# Altium integrated library Resistors-potenciometers.IntLib: 401 symbols (part 4 of 5)
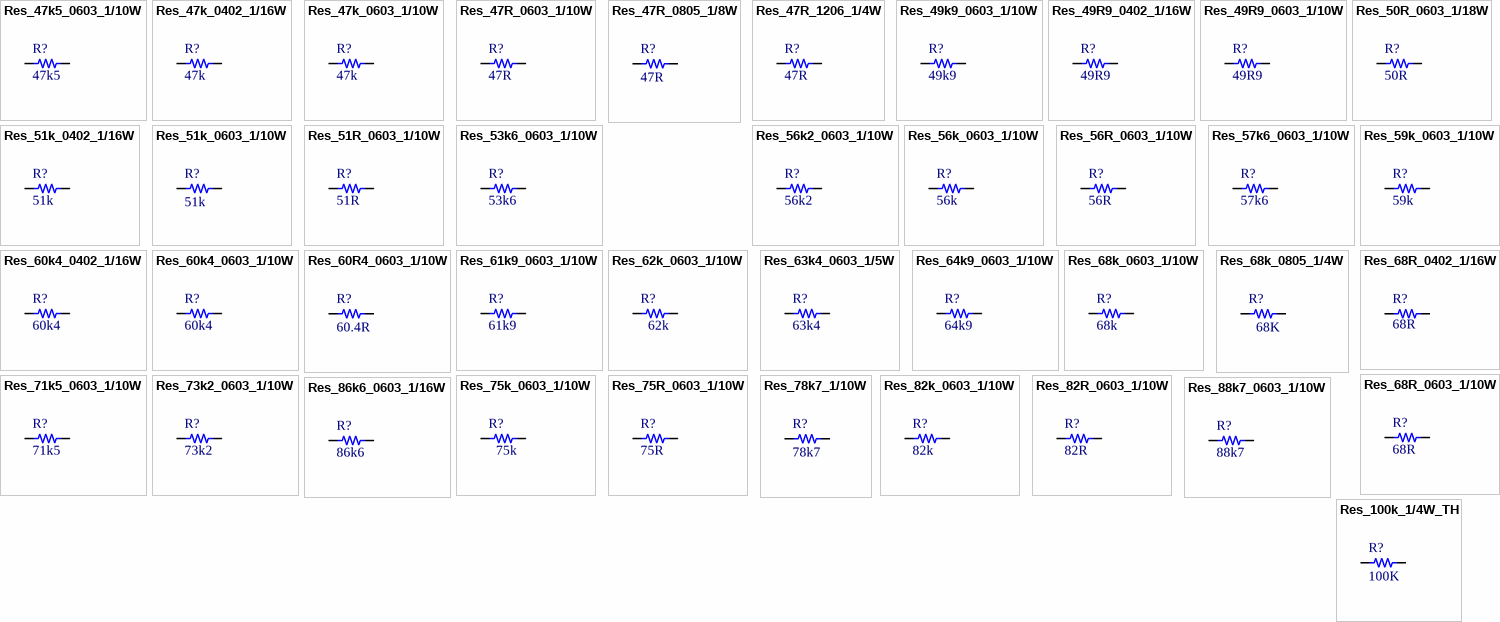
[diagram p13: symbols Res_47k5_0603_1/10W to Res_100k_1/4W_TH]

## Res_68k_0603_1/10W
designator R?, comment value 68k  (hidden comment: 68k 1/10W)
RES SMD 68K OHM 1% 1/10W 0603; Manufacturer: Yageo; Manufacturer Part Number: RC0603FR-0768KL; Supplier 1: Digi-Key; Supplier Part Number 1: 311-68.0KHRCT-ND; Reel Stock: N/A; Last modified by: J.Jaramillo; Last modified date: 20240310; ComponentLink1Description: Digi-Key; ComponentLink1URL: https://www.digikey.com/product-detail/en/yageo/RC0603FR-0768KL/311-68.0KHRCT-ND/730299
footprint 0603
pins: 1, 2

## Res_68k_0805_1/4W
designator R?, comment value 68K  (hidden comment: 68k 1/4W)
RES 68K OHM 5% 1/8W 0805; Manufacturer: YAGEO; Manufacturer Part Number: RC0805JR-0768KL; Supplier 1: Digi-Key; Supplier Part Number 1: 311-68KARCT-ND; Reel Stock: N/A; Last modified by: J.Jaramillo; Last modified date: 20240310; ComponentLink1Description: Digi-Key; ComponentLink1URL: https://www.digikey.com/en/products/detail/yageo/RC0805JR-0768KL/728364
footprint 0805 (2012 metric/ 20190327 / V-A.Patino)
pins: 1, 2

## Res_68R_0402_1/16W
designator R?, comment value 68R  (hidden comment: 68R 1/16W)
RES SMD 68 OHM 5% 1/16W 0402; Manufacturer: Yageo; Manufacturer Part Number: RC0402JR-0768RL; Supplier 1: Digi-Key; Supplier Part Number 1: 311-68JRCT-ND; Reel Stock: N/A; Last modified by: J.Jaramillo; Last modified date: 20240310; ComponentLink1Description: Digi-Key; ComponentLink1URL: https://www.digikey.com/product-detail/en/yageo/RC0402JR-0768RL/311-68JRCT-ND/729449
footprint 0402 (1005 Metric / 20190222 / N-A.Potosi)
footprint 0402_RF (1005 Metric / 20190222 / N-A.Potosi)
footprint 0402_RF2 (1005 Metric / 20190222 / N-A.Potosi)
pins: 1, 2

## Res_68R_0603_1/10W
designator R?, comment value 68R  (hidden comment: 68R 1/10W)
RES SMD 68 OHM 1% 1/10W 0603; Manufacturer: Yageo; Manufacturer Part Number: RC0603FR-0768RL; Reel Stock: N/A; Last modified by: J.Jaramillo; Last modified date: 20240310; ComponentLink1Description: Digi-Key; ComponentLink1URL: https://www.digikey.com/en/products/detail/yageo/RC0603FR-0768RL/727351?s=N4IgTCBcDaIMwEYEFoBsAOAdABgBICUBhAFWQDkAREAXQF8g; Supplier 1: Digi-Key; Supplier Part Number 1: 311-68.0HRCT-ND
footprint 0603
pins: 1, 2

## Res_71k5_0603_1/10W
designator R?, comment value 71k5  (hidden comment: 71k5 1/10W)
RES 71.5K OHM 1% 1/10W 0603; Manufacturer: YAGEO; Manufacturer Part Number: RC0603FR-0771K5L; Supplier 1: Digi-Key; Supplier Part Number 1: 311-71.5KHRCT-ND; Reel Stock: N/A; Last modified by: J.Jaramillo; Last modified date: 20240310; ComponentLink1Description: Digi-Key; ComponentLink1URL: https://www.digikey.com/en/products/detail/yageo/RC0603FR-0771K5L/727370
footprint 0603 (1608 Metric / 20190222 / N-A.Potosi)
pins: 1, 2

## Res_73k2_0603_1/10W
designator R?, comment value 73k2  (hidden comment: 73k2 /10W)
RES 73.2K OHM 1% 1/10W 0603; Manufacturer: YAGEO; Manufacturer Part Number: RC0603FR-0773K2L; Supplier 1: Digi-Key; Supplier Part Number 1: 311-73.2KHRCT-ND; Reel Stock: N/A; Last modified by: J.Jaramillo; Last modified date: 20240310; ComponentLink1Description: Digi-Key; ComponentLink1URL: https://www.digikey.com/en/products/detail/yageo/RC0603FR-0773K2L/727374
footprint 0603 (1608 Metric / 20190222 / N-A.Potosi)
pins: 1, 2

## Res_75k_0603_1/10W
designator R?, comment value 75k  (hidden comment: 75k 1/10W)
RES 75k OHM 1% 1/10W 0603; Manufacturer: Stackpole Electronics Inc.; Manufacturer Part Number: RMCF0603FT75K0; Supplier 1: Digi-Key; Supplier Part Number 1: RMCF0603FT75K0CT-ND; Reel Stock: N/A; Last modified by: J.Jaramillo; Last modified date: 20240310; ComponentLink1Description: Digi-Key; ComponentLink1URL: https://www.digikey.com/product-detail/en/stackpole-electronics-inc/RMCF0603FT75K0/RMCF0603FT75K0CT-ND/1943111
footprint 0603
pins: 1, 2

## Res_75R_0603_1/10W
designator R?, comment value 75R  (hidden comment: 75R 1/10W)
RES 75 OHM 1% 1/10W 0603; Manufacturer: Stackpole Electronics Inc.; Manufacturer Part Number: RMCF0603FT75R0; Supplier 1: Digi-Key; Supplier Part Number 1: RMCF0603FT75R0CT-ND; Reel Stock: N/A; Last modified by: J.Jaramillo; Last modified date: 20240310; ComponentLink1Description: Digi-Key; ComponentLink1URL: https://www.digikey.com/product-detail/en/stackpole-electronics-inc/RMCF0603FT75R0/RMCF0603FT75R0CT-ND/1942961
footprint 0603
pins: 1, 2

## Res_78k7_1/10W
designator R?, comment 78K7
RES SMD 78.7K OHM 1% 1/10W 0603; Manufacturer: Vishay Dale; Manufacturer Part Number: CRCW060378K7FKEA; Supplier 1: Digi-Key; Supplier Part Number 1: 541-78.7KHCT-ND; Reel Stock: N/A; Last modified by: J.Jaramillo; Last modified date: 20240310; ComponentLink1Description: New link; ComponentLink1URL: https://www.digikey.com/en/products/detail/vishay-dale/CRCW060378K7FKEA/1174884; Value: 78k7
footprint 0603 (1608 Metric / 20190222 / N-A.Potosi)
pins: 1, 2

## Res_82k_0603_1/10W
designator R?, comment value 82k  (hidden comment: 82k 1/10W)
RES 82K OHM 1% 1/10W 0603; Manufacturer: Stackpole Electronics Inc.; Manufacturer Part Number: RMCF0603FT82K0; Supplier 1: Digi-Key; Supplier Part Number 1: RMCF0603FT82K0CT-ND; Reel Stock: N/A; Last modified by: J.Jaramillo; Last modified date: 20240310; ComponentLink1Description: Digi-Key; ComponentLink1URL: https://www.digikey.com/products/en?keywords=RMCF0603FT82K0CT-ND
footprint 0603
pins: 1, 2

## Res_82R_0603_1/10W
designator R?, comment value 82R  (hidden comment: 82R 1/10W)
RES SMD 82 OHM 1% 1/10W 0603; Manufacturer Part Number: CR0603-FX-82R0ELF; Manufacturer: Bourns; Reel Stock: N/A; Last modified by: J.Jaramillo; Last modified date: 20240310; ComponentLink1Description: Digi-Key; ComponentLink1URL: https://www.digikey.com/en/products/detail/bourns-inc/CR0603-FX-82R0ELF/3784192?s=N4IgTCBcDaIMICUAMA2JBmAtAMQBqYA4xkBRAGWxAF0BfIA; Supplier 1: Digi-Key; Supplier Part Number 1: CR0603-FX-82R0ELFCT-ND
footprint 0603
pins: 1, 2

## Res_86k6_0603_1/16W
designator R?, comment value 86k6  (hidden comment: 86k6 1/16W)
RES 86.6K OHM 0.1% 1/10W 0603; Manufacturer: Stackpole Electronics Inc; Manufacturer Part Number: RNCF0603BTE86K6; Supplier 1: Digi-Key; Supplier Part Number 1: RNCF0603BTE86K6CT-ND; Reel Stock: N/A; Last modified by: J.Jaramillo; Last modified date: 20240310; ComponentLink1Description: Digi-Key; ComponentLink1URL: https://www.digikey.com/en/products/detail/stackpole-electronics-inc/RNCF0603BTE86K6/1710179
footprint 0603 (1608 Metric / 20190222 / N-A.Potosi)
pins: 1, 2

## Res_88k7_0603_1/10W
designator R?, comment value 88k7  (hidden comment: 88k7 1/10W)
RES SMD 88.7K OHM 1% 1/10W 0603; Manufacturer: Yageo; Manufacturer Part Number: RC0603FR-0788K7L; Supplier 1: Digi-Key; Supplier Part Number 1: 311-88.7KHRCT-ND; Reel Stock: N/A; Last modified by: J.Jaramillo; Last modified date: 20240310; ComponentLink1Description: Digi-Key; ComponentLink1URL: https://www.digikey.com/product-detail/en/yageo/RC0603FR-0788K7L/311-88.7KHRCT-ND/730362
footprint 0603 (1608 Metric / 20190222 / N-A.Potosi)
pins: 1, 2

## Res_100k_1/4W_TH
designator R?  value 100K
RES 100K OHM 5% 1/4W AXIAL; Manufacturer: Stackpole Electronics Inc; Manufacturer Part Number: CF14JT100K; Supplier 1: Digi-Key; Supplier Part Number 1: CF14JT100KCT-ND; Reel Stock: N/A; Last modified by: J.Jaramillo; Last modified date: 20240310; ComponentLink1Description: Digi-Key; ComponentLink1URL: https://www.digikey.com/en/products/detail/stackpole-electronics-inc/CF14JT100K/1741263; ComponentLink2Description: Datahseet; ComponentLink2URL: chrome-extension://efaidnbmnnnibpcajpcglclefindmkaj/https://www.seielect.com/catalog/sei-cf_cfm.pdf
footprint RES_1/4W_TH_AXIAL (/20231112/ J.Jaramillo)
pins: 1, 2

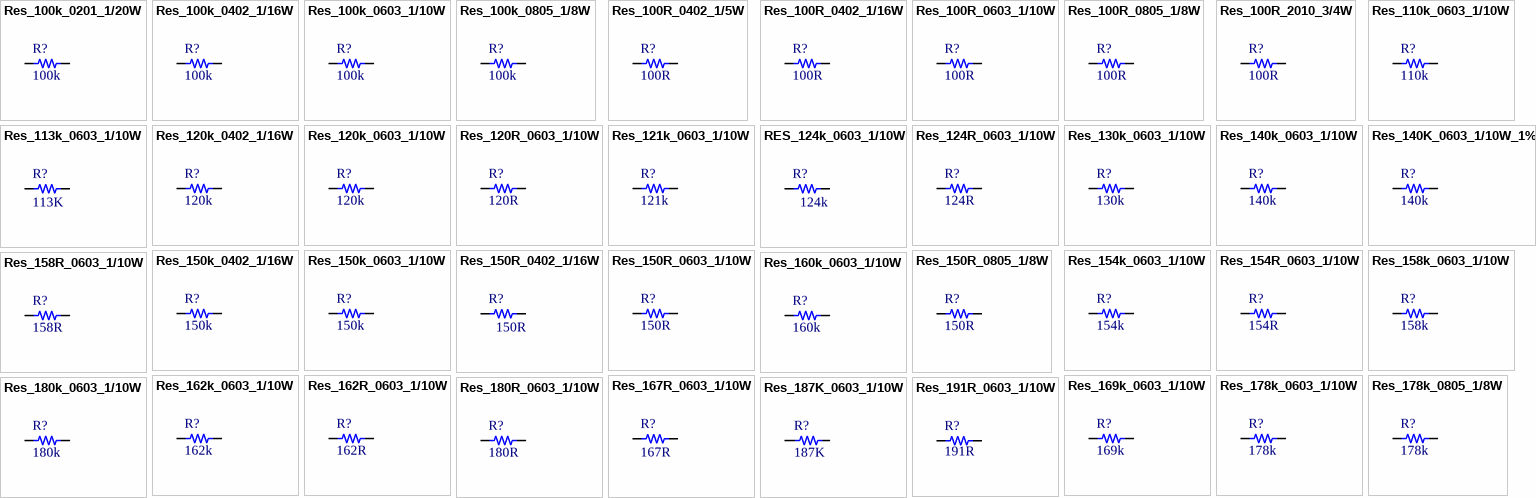
[diagram p7: symbols Res_100k_0201_1/20W to Res_191R_0603_1/10W]

## Res_100k_0201_1/20W
designator R?, comment value 100k  (hidden comment: 100k 1/20W)
RES 100K OHM 1% 1/20W 0201; Manufacturer: KOA Speer Electronics, Inc.; Manufacturer Part Number: RK73H1HTTC1003F; Supplier 1: Digi-Key; Supplier Part Number 1: 2019-RK73H1HTTC1003FCT-ND; Reel Stock: N/A; Last modified by: J.Jaramillo; Last modified date: 20240310; ComponentLink1Description: Digi-Key; ComponentLink1URL: https://www.digikey.com/en/products/detail/koa-speer-electronics-inc/RK73H1HTTC1003F/9843756?s=N4IgTCBcDaIEoGkDsBmAEgRjQFWwYQwAZCUAxEAXQF8g
footprint 0201 (20211214 / A-F.Romo)
pins: 1, 2

## Res_100k_0402_1/16W
designator R?, comment value 100k  (hidden comment: 100K 1/16W)
RES SMD 100K OHM 1% 1/16W 0402; Manufacturer: Yageo; Manufacturer Part Number: RC0402FR-07100KL; Supplier 1: Digi-Key; Supplier Part Number 1: 311-100KLRCT-ND; Reel Stock: N/A; Last modified by: J.Jaramillo; Last modified date: 20240310; ComponentLink1Description: Digi-Key; ComponentLink1URL: https://www.digikey.com/en/products/detail/yageo/RC0402FR-07100KL/726526?s=N4IgTCBcDaIEoGEAMAWJYBicC0SDsAjEkgNIAyIAugL5A
footprint 0402 (1005 Metric / 20190222 / N-A.Potosi)
footprint 0402_RF (1005 Metric / 20190222 / N-A.Potosi)
footprint 0402_RF2 (1005 Metric / 20190222 / N-A.Potosi)
pins: 1, 2

## Res_100k_0603_1/10W
designator R?, comment value 100k  (hidden comment: 100k 1/10W)
RES 100k OHM 1% 1/10W 0603; Manufacturer: Stackpole Electronics Inc.; Manufacturer Part Number: RMCF0603FT100K; Supplier 1: Digi-Key; Supplier Part Number 1: RMCF0603FT100KCT-ND; Reel Stock: N/A; Last modified by: J.Jaramillo; Last modified date: 20240310; ComponentLink1Description: Digi-Key; ComponentLink1URL: https://www.digikey.com/product-detail/en/stackpole-electronics-inc/RMCF0603FT100K/RMCF0603FT100KCT-ND/1943118
footprint 0603
pins: 1, 2

## Res_100k_0805_1/8W
designator R?, comment value 100k  (hidden comment: 100k 1/8W)
RES SMD 100K OHM 1% 1/8W 0805; Manufacturer: Yageo; Manufacturer Part Number: RC0805FR-07100KL; Supplier 1: Digi-Key; Supplier Part Number 1: 311-100KCRCT-ND; Reel Stock: N/A; Last modified by: J.Jaramillo; Last modified date: 20240310; ComponentLink1Description: Digi-Key; ComponentLink1URL: https://www.digikey.com/product-detail/en/yageo/RC0805FR-07100KL/311-100KCRCT-ND/730491
footprint 0805 (2012 metric/ 20190327 / V-A.Patino)
footprint 0805_M (2012 Metric / 20200129/ V-A.Patino)
pins: 1, 2

## Res_100R_0402_1/5W
designator R?, comment value 100R  (hidden comment: 100R 1/5W)
RES SMD 100 OHM 1% 1/5W 0402; Manufacturer: Vishay Dale; Manufacturer Part Number: RCS0402100RFKED; ComponentLink1URL: https://www.digikey.com/products/en?keywords=541-2886-1-ND; Reel Stock: N/A; Last modified by: J.Jaramillo; Last modified date: 20240310; ComponentLink1Description: Digi-key; Supplier 1: Digi-Key; Supplier Part Number 1: 541-2886-1-ND
footprint 0402
footprint 0402_RF
pins: 1, 2

## Res_100R_0402_1/16W
designator R?, comment value 100R  (hidden comment: 100R 1/16W)
RES SMD 100 OHM 1% 1/16W 0402; Manufacturer: Yageo; Manufacturer Part Number: RC0402FR-07100RL; Supplier 1: Digi-Key; Supplier Part Number 1: 311-100LRCT-ND; Reel Stock: N/A; Last modified by: J.Jaramillo; Last modified date: 20240310; ComponentLink1Description: Digi_Key; ComponentLink1URL: https://www.digikey.com/en/products/detail/yageo/RC0402FR-07100RL/726527?s=N4IgTCBcDaIEoGEAMAWJYBicC0SDsAjEknADIgC6AvkA
footprint 0402 (1005 Metric / 20190222 / N-A.Potosi)
footprint 0402_RF (1005 Metric / 20190222 / N-A.Potosi)
footprint 0402_RF2 (1005 Metric / 20190222 / N-A.Potosi)
pins: 1, 2

## Res_100R_0603_1/10W
designator R?, comment value 100R  (hidden comment: 100R 1/10W)
RES SMD 100 OHM 1% 1/10W 0603; Manufacturer: Samsung Electro-Mechanics; Manufacturer Part Number: RC1608F101CS; ComponentLink1URL: https://www.digikey.com/products/en?keywords=1276-3482-1-ND; Supplier 1: Digi-Key; Supplier Part Number 1: 1276-3482-1-ND; Reel Stock: N/A; Last modified by: J.Jaramillo; Last modified date: 20240310; ComponentLink1Description: Digi-key
footprint 0603
pins: 1, 2

## Res_100R_0805_1/8W
designator R?, comment value 100R  (hidden comment: 100R 1/8W)
RES SMD 100 OHM 1% 1/8W 0805; Manufacturer: Yageo; Manufacturer Part Number: RC0805FR-07100RL; Reel Stock: N/A; Last modified by: J.Jaramillo; Last modified date: 20240310; ComponentLink1Description: Digi-Key; ComponentLink1URL: https://www.digikey.com/en/products/detail/yageo/RC0805FR-07100RL/727543?s=N4IgTCBcDaIEoGEAMAOJBWAYnAtEg7AIxJJwAyIAugL5A; Supplier 1: Digi-Key; Supplier Part Number 1: 311-100CRCT-ND
footprint 0805 (2012 Metric / 20190221 / C-A.Serna.A)
footprint 0805_M (2012 Metric / 20200129/ V-A.Patino)
pins: 1, 2

## Res_100R_2010_3/4W
designator R?, comment value 100R  (hidden comment: 1R 3/4W)
RES 100 OHM 5% 3/4W 2010; Manufacturer: YAGEO; Manufacturer Part Number: RC2010JK-07100RL; Supplier 1: Digi-Key; Supplier Part Number 1: YAG3381CT-ND; Reel Stock: N/A; Last modified by: J.Jaramillo; Last modified date: 20240310; ComponentLink1Description: Digi-Key; ComponentLink1URL: https://www.digikey.com/en/products/detail/yageo/RC2010JK-07100RL/5921626
footprint 2010 (E.Naranjo/20220217)
pins: 1, 2

## Res_110k_0603_1/10W
designator R?, comment value 110k  (hidden comment: 110k 1/10W)
RES SMD 110K OHM 1% 1/10W 0603; Manufacturer: Bourns Inc.; Manufacturer Part Number: CR0603-FX-1103ELF; Supplier 1: Digi-Key; Supplier Part Number 1: CR0603-FX-1103ELFCT-ND; Reel Stock: N/A; Last modified by: J.Jaramillo; Last modified date: 20240310; ComponentLink1Description: Digi-Key; ComponentLink1URL: https://www.digikey.com/product-detail/en/bourns-inc/CR0603-FX-1103ELF/CR0603-FX-1103ELFCT-ND/4247702
footprint 0603 (1608 Metric / 20190222 / N-A.Potosi)
pins: 1, 2

## Res_113k_0603_1/10W
designator R?, comment value 113K  (hidden comment: 113K 1/10W)
RES 113K OHM 1% 1/10W 0603; Manufacturer: Stackpole Electronics Inc; Manufacturer Part Number: RMCF0603FT113K; Supplier 1: Digi-Key; Supplier Part Number 1: RMCF0603FT113KCT-ND; Reel Stock: N/A; Last modified by: J.Jaramillo; Last modified date: 20240310; ComponentLink1Description: Digi-Key; ComponentLink1URL: https://www.digikey.com/en/products/detail/stackpole-electronics-inc/RMCF0603FT113K/1713567
footprint 0603 (1608 Metric / 20190222 / N-A.Potosi)
pins: 1, 2

## Res_120k_0402_1/16W
designator R?, comment value 120k  (hidden comment: 120k 1/16W)
RES SMD 120K OHM 1% 1/16W 0402; Manufacturer: Yageo; Manufacturer Part Number: RC0402FR-07120KL; Supplier 1: Digikey; Supplier Part Number 1: 311-120KLRCT-ND; Reel Stock: N/A; Last modified by: J.Jaramillo; Last modified date: 20240310; ComponentLink1Description: Digikey; ComponentLink1URL: https://www.digikey.com/en/products/detail/yageo/RC0402FR-07120KL/726534
footprint 0402 (1005 Metric / 20190222 / N-A.Potosi)
footprint 0402_RF (1005 Metric / 20190222 / N-A.Potosi)
footprint 0402_RF2 (1005 Metric / 20190222 / N-A.Potosi)
pins: 1, 2

## Res_120k_0603_1/10W
designator R?, comment value 120k  (hidden comment: 120k 1/10W)
RES SMD 120K OHM 1% 1/10W 0603; Manufacturer Part Number: RT0603FRE07120KL; Manufacturer: Yageo; Reel Stock: N/A; Last modified by: J.Jaramillo; Last modified date: 20240310; ComponentLink1Description: Digi-Key; ComponentLink1URL: https://www.digikey.com/en/products/detail/yageo/RT0603FRE07120KL/1075061?s=N4IgTCBcDaIEoBUAMA2JBmAYnAokg7AIxhIDSAMiALoC%2BQA; Supplier 1: Digi-Key; Supplier Part Number 1: YAG3352CT-ND
footprint 0603
pins: 1, 2

## Res_120R_0603_1/10W
designator R?, comment value 120R  (hidden comment: 120R 1/10W)
RES SMD 120 OHM 1% 1/10W 0603; Manufacturer Part Number: ERJ3EKF1200V; Manufacturer: Panasonic Electronic Components; Reel Stock: N/A; Last modified by: J.Jaramillo; Last modified date: 20240310; ComponentLink1Description: Digi-Key; ComponentLink1URL: https://www.digikey.com/en/products/detail/panasonic-electronic-components/ERJ-3EKF1200V/1746300?s=N4IgTCBcDaIKICUBSBmOBpAYgRjABjwDUQBdAXyA; Supplier 1: Digi-Key; Supplier Part Number 1: P120HCT-ND
footprint 0603
pins: 1, 2

## Res_121k_0603_1/10W
designator R?, comment value 121k  (hidden comment: 121k 1/10W)
RES SMD 121K OHM 1% 1/10W 0603; Manufacturer: Yageo; Manufacturer Part Number: RC0603FR-07121KL; Supplier 1: Digi-Key; Supplier Part Number 1: 311-121KHRCT-ND; Reel Stock: N/A; Last modified by: J.Jaramillo; Last modified date: 20240310; ComponentLink1Description: Digi-Key; ComponentLink1URL: https://www.digikey.com/product-detail/en/yageo/RC0603FR-07121KL/311-121KHRCT-ND/729870
footprint 0603 (1608 Metric / 20190222 / N-A.Potosi)
pins: 1, 2

## RES_124k_0603_1/10W
designator R?, comment value 124k  (hidden comment: 124k 1/10W)
RES 124K OHM 1% 1/10W 0603; Manufacturer: YAGEO; Manufacturer Part Number: RC0603FR-07124KL; Supplier 1: Digi-Key; Supplier Part Number 1: 311-124KHRCT-ND; Reel Stock: N/A; Last modified by: J.Jaramillo; Last modified date: 20240310; ComponentLink1Description: Digi-Key; ComponentLink1URL: https://www.digikey.com/en/products/detail/yageo/RC0603FR-07124KL/726925
footprint 0603_0.4mm (1608 Metric/20230303/J-A.Sepulveda)
footprint 0603_0.6mm (1608 Metric/20230303/J-A.Sepulveda)
footprint 0603_0.8mm (1608 Metric/20230303/J-A.Sepulveda)
footprint 0603_1.0mm (1608 Metric/20230303/J-A.Sepulveda)
footprint 0603_1.2mm (1608 Metric/20230303/J-A.Sepulveda)
footprint 0603_1.4mm (1608 Metric/20230206/J-A.Sepulveda)
pins: 1, 2

## Res_124R_0603_1/10W
designator R?, comment value 124R  (hidden comment: 124R 1/10W)
RES SMD 124 OHM 1% 1/10W 0603; Manufacturer: Bourns Inc.; Manufacturer Part Number: CR0603-FX-1240ELF; Reel Stock: N/A; Last modified by: J.Jaramillo; Last modified date: 20240310; ComponentLink1Description: Digi-Key; ComponentLink1URL: https://www.digikey.com/en/products/detail/bourns-inc/CR0603-FX-1240ELF/3783708; Supplier 1: Digi-Key; Supplier Part Number 1: CR0603-FX-1240ELFCT-ND
footprint 0603
pins: 1, 2

## Res_130k_0603_1/10W
designator R?, comment value 130k  (hidden comment: 130k 1/10W)
RES SMD 130K OHM 1% 1/10W 0603; Manufacturer: Yageo; Manufacturer Part Number: RC0603FR-07130KL; Supplier 1: Digi-Key; Supplier Part Number 1: 311-130KHRCT-ND; Reel Stock: N/A; Last modified by: J.Jaramillo; Last modified date: 20240310; ComponentLink1Description: Digi-Key; ComponentLink1URL: https://www.digikey.com/product-detail/en/yageo/RC0603FR-07130KL/311-130KHRCT-ND/729882
footprint 0603 (1608 Metric / 20190222 / N-A.Potosi)
pins: 1, 2

## Res_140k_0603_1/10W
designator R?, comment value 140k  (hidden comment: 140k 1/10W)
RES SMD 140k OHM 0.5% 1/10W 0603; Manufacturer: Yageo; Manufacturer Part Number: RT0603DRD07140KL; Supplier 1: Digi-Key; Supplier Part Number 1: 311-140KDCT-ND; Reel Stock: N/A; Last modified by: J.Jaramillo; Last modified date: 20240310; ComponentLink1Description: Digi-Key; ComponentLink1URL: https://www.digikey.com/product-detail/en/yageo/RT0603DRD07140KL/311-140KDCT-ND/1035697
footprint 0603
pins: 1, 2

## Res_140K_0603_1/10W_1%
designator R?, comment value 140k  (hidden comment: 140K 1/10W)
RES SMD 140K OHM 1% 1/10W 0603; Manufacturer: Yageo; Manufacturer Part Number: RC0603FR-07140KL; Supplier 1: Digi-Key; Supplier Part Number 1: 311-140KHRCT-ND; Reel Stock: N/A; Last modified by: J.Jaramillo; Last modified date: 20240310; ComponentLink1Description: Digi-Key; ComponentLink1URL: https://www.digikey.com/en/products/detail/yageo/RC0603FR-07140KL/726947?s=N4IgTCBcDaIEoGEAMA2JBmAYnAtEg7AIwAsSA0gDIgC6AvkA
footprint 0603 (1608 Metric / 20190222 / N-A.Potosi)
pins: 1, 2

## Res_150k_0402_1/16W
designator R?, comment value 150k  (hidden comment: 150k 1/16W)
RES SMD 150K OHM 1% 1/16W 0402; Manufacturer: Yageo; Manufacturer Part Number: RC0402FR-07150KL; Supplier 1: Digikey; Supplier Part Number 1: 311-150KLRCT-ND; Reel Stock: N/A; Last modified by: J.Jaramillo; Last modified date: 20240310; ComponentLink1Description: Digikey; ComponentLink1URL: https://www.digikey.com/en/products/detail/yageo/RC0402FR-07150KL/726542
footprint 0402 (1005 Metric / 20190222 / N-A.Potosi)
footprint 0402_RF (1005 Metric / 20190222 / N-A.Potosi)
footprint 0402_RF2 (1005 Metric / 20190222 / N-A.Potosi)
pins: 1, 2

## Res_150k_0603_1/10W
designator R?, comment value 150k  (hidden comment: 150k 1/10W)
RES 150K OHM 1% 1/10W 0603; Manufacturer: TE Connectivity Passive Product; Manufacturer Part Number: CRGCQ0603F150K; Supplier 1: Digi-Key; Supplier Part Number 1: A129714CT-ND; Reel Stock: N/A; Last modified by: J.Jaramillo; Last modified date: 20240310; ComponentLink1Description: Digi-Key; ComponentLink1URL: https://www.digikey.com/en/products/detail/stackpole-electronics-inc/RNCP0603FTD10K0/2240139
footprint 0603 (1608 Metric / 20190222 / N-A.Potosi)
pins: 1, 2

## Res_150R_0402_1/16W
designator R?, comment value 150R  (hidden comment: 150R 1/16W)
RES 150 OHM 1% 1/16W 0402; Manufacturer: YAGEO; Manufacturer Part Number: RC0402FR-07150RL; Supplier 1: Digi-Key; Supplier Part Number 1: 311-150LRCT-ND; Reel Stock: N/A; Last modified by: J.Jaramillo; Last modified date: 20240310; ComponentLink1Description: Digi-Key; ComponentLink1URL: https://www.digikey.com/en/products/detail/yageo/RC0402FR-07150RL/726543
footprint 0402 (1005 Metric / 20190222 / N-A.Potosi)
footprint 0402_RF (1005 Metric / 20230306/ J-A.Sepulveda)
footprint 0402_0.2mm (1005 Metric/20230206/J-A.Sepulveda)
footprint 0402_0.4mm (1005 Metric/20230303/J-A.Sepulveda)
footprint 0402_0.6mm (1005 Metric/20230303/J-A.Sepulveda)
footprint 0402_0.8mm (1005 Metric/20230303/J-A.Sepulveda)
footprint 0402_1.0mm (1005 Metric/20230303/J-A.Sepulveda)
pins: 1, 2

## Res_150R_0603_1/10W
designator R?, comment value 150R  (hidden comment: 150R 1/10W)
RES SMD 150 OHM 1% 1/10W 0603; Manufacturer: Bourns Inc.; Manufacturer Part Number: CR0603-FX-1500ELF; Reel Stock: N/A; Last modified by: J.Jaramillo; Last modified date: 20240310; ComponentLink1Description: Digi-key; ComponentLink1URL: https://www.digikey.com/product-detail/en/bourns-inc/CR0603-FX-1500ELF/CR0603-FX-1500ELFCT-ND/3925303; Supplier 1: Digi-Key; Supplier Part Number 1: 118-CR0603-FX-1500ELFCT-ND
footprint 0603 (1608 Metric / 20190222 / N-A.Potosi)
pins: 1, 2

## Res_150R_0805_1/8W
designator R?, comment value 150R  (hidden comment: 150R 1/8W)
RES 150 OHM 5% 1/8W 0805; Manufacturer: Stackpole Electronics Inc; Manufacturer Part Number: RMCF0805JT150R; Supplier 1: Digi-Key; Supplier Part Number 1: RMCF0805JT150RCT-ND; Reel Stock: N/A; Last modified by: J.Jaramillo; Last modified date: 20240310; ComponentLink1Description: Digi-Key; ComponentLink1URL: https://www.digikey.com/en/products/detail/stackpole-electronics-inc/RMCF0805JT150R/1757820
footprint 0805 (2012 metric/ 20190327 / V-A.Patino)
pins: 1, 2

## Res_154k_0603_1/10W
designator R?, comment value 154k  (hidden comment: 154k 1/10W)
RES 154K OHM 1% 1/10W 0603; Manufacturer: KOA Speer Electronics, Inc.; Manufacturer Part Number: RN73H1JTTD1543F100; Supplier 1: Digi-Key; Supplier Part Number 1: 2019-RN73H1JTTD1543F100CT-ND; Reel Stock: N/A; Last modified by: J.Jaramillo; Last modified date: 20240310; ComponentLink1Description: Digi-Key; ComponentLink1URL: https://www.digikey.com/en/products/detail/koa-speer-electronics-inc/RN73H1JTTD1543F100/10674837
footprint 0603 (1608 Metric / 20190222 / N-A.Potosi)
pins: 1, 2

## Res_154R_0603_1/10W
designator R?, comment value 154R  (hidden comment: 154R  1/10W)
RES SMD 154 OHM 1% 1/10W 0603; Manufacturer: Yageo; Manufacturer Part Number: RC0603FR-07154RL; Supplier 1: Digi-Key; Supplier Part Number 1: 311-154HRCT-ND; Reel Stock: N/A; Last modified by: J.Jaramillo; Last modified date: 20240310; ComponentLink1Description: Digi-Key; ComponentLink1URL: https://www.digikey.com/en/products/detail/yageo/RC0603FR-07154RL/726960
footprint 0603 (1608 Metric / 20190222 / N-A.Potosi)
pins: 1, 2

## Res_158k_0603_1/10W
designator R?, comment value 158k  (hidden comment: 158k 1/10W)
RES SMD 158K OHM 1% 1/10W 0603; Manufacturer: Yageo; Manufacturer Part Number: RC0603FR-07158KL; Reel Stock: N/A; Last modified by: J.Jaramillo; Last modified date: 20240310; ComponentLink1Description: Digi-key; ComponentLink1URL: https://www.digikey.com/product-detail/en/yageo/RC0603FR-07158KL/311-158KHRCT-ND/729910; Supplier 1: Digi-Key; Supplier Part Number 1: 311-158KHRCT-ND
footprint 0603 (1608 Metric / 20190222 / N-A.Potosi)
pins: 1, 2

## Res_158R_0603_1/10W
designator R?, comment value 158R  (hidden comment: 158R 1/10W)
RES SMD 158 OHM 1% 1/10W 0603; Manufacturer: Panasonic Electronic Components; Manufacturer Part Number: ERJ-3EKF1580V; Supplier 1: Digi-Key; Supplier Part Number 1: P158HCT-ND; Reel Stock: N/A; Last modified by: J.Jaramillo; Last modified date: 20240310; ComponentLink1Description: Digi-Key; ComponentLink1URL: https://www.digikey.com/product-detail/en/panasonic-electronic-components/ERJ-3EKF1580V/P158HCT-ND/198181
footprint 0603 (1608 Metric / 20190222 / N-A.Potosi)
pins: 1, 2

## Res_160k_0603_1/10W
designator R?, comment value 160k  (hidden comment: 160K 1/10W)
RES 160K OHM 5% 1/10W 0603; Manufacturer: YAGEO; Manufacturer Part Number: RC0603JR-07160KL; Supplier 1: Digi-Key; Supplier Part Number 1: 311-160KGRCT-ND; Reel Stock: N/A; Last modified by: J.Jaramillo; Last modified date: 20240310; ComponentLink1Description: Digi-Key; ComponentLink1URL: https://www.digikey.com/en/products/detail/yageo/RC0603JR-07160KL/726719
footprint 0603 (1608 Metric / 20190222 / N-A.Potosi)
pins: 1, 2

## Res_162k_0603_1/10W
designator R?, comment value 162k  (hidden comment: 162k 1/10W)
RES 162K OHM 1% 1/10W 0603; Manufacturer: Stackpole Electronics Inc; Manufacturer Part Number: RMCF0603FT162K; Supplier 1: Digi-Key; Supplier Part Number 1: RMCF0603FT162KCT-ND; Reel Stock: N/A; Last modified by: J.Jaramillo; Last modified date: 20240310; ComponentLink1Description: Digi-Key; ComponentLink1URL: https://www.digikey.com/en/products/detail/stackpole-electronics-inc/RMCF0603FT162K/1761050
footprint 0603 (1608 Metric / 20190222 / N-A.Potosi)
pins: 1, 2

## Res_162R_0603_1/10W
designator R?, comment value 162R  (hidden comment: 162 1/10W)
RES 162 OHM 1% 1/10W 0603; Manufacturer: Yageo; Manufacturer Part Number: RC0603FR-07162RL; Supplier 1: Digi-key; Supplier Part Number 1: 311-162HRCT-ND; Reel Stock: N/A; Last modified by: J.Jaramillo; Last modified date: 20240310; ComponentLink1Description: Digi-key; ComponentLink1URL: https://www.digikey.com/en/products/detail/yageo/RC0603FR-07162RL/726974
footprint 0603 (1608 Metric / 20190222 / N-A.Potosi)
pins: 1, 2

## Res_167R_0603_1/10W
designator R?, comment value 167R  (hidden comment: 167R 1/10W)
RES SMD 167 OHM 0.5% 1/10W 0603; Manufacturer: YAGEO; Manufacturer Part Number: RT0603DRE07167RL; Supplier 1: Digi-Key; Supplier Part Number 1: 311-2091-1-ND; Reel Stock: N/A; Last modified by: J.Jaramillo; Last modified date: 20240310; ComponentLink1Description: Digi-Key; ComponentLink1URL: https://www.digikey.com/en/products/detail/yageo/RT0603DRE07167RL/6128498?s=N4IgTCBcDaIMwEYEFowAYCcKUDkAiABCALoC%2BQA
footprint 0603 (1608 Metric / 20190222 / N-A.Potosi)
pins: 1, 2

## Res_169k_0603_1/10W
designator R?, comment value 169k  (hidden comment: 169k 1/10W)
RES SMD 169K OHM 1% 1/10W 0603; Manufacturer: Panasonic Electronic Components; Manufacturer Part Number: ERJ-3EKF1693V; Supplier 1: Digi-Key; Supplier Part Number 1: P169KHCT-ND; Reel Stock: N/A; Last modified by: J.Jaramillo; Last modified date: 20240310; ComponentLink1Description: Digi-Key; ComponentLink1URL: https://www.digikey.com/en/products/detail/panasonic-electronic-components/ERJ-3EKF1693V/196157
footprint 0603 (1608 Metric / 20190222 / N-A.Potosi)
pins: 1, 2

## Res_178k_0603_1/10W
designator R?, comment value 178k  (hidden comment: 178k 1/10W)
RES SMD 178k OHM 1% 1/10W 0603; Manufacturer: Yageo; Manufacturer Part Number: RT0603BRD07178KL; Supplier 1: Digi-Key; Supplier Part Number 1: YAG4481CT-ND; Reel Stock: N/A; Last modified by: J.Jaramillo; Last modified date: 20240310; ComponentLink1Description: Digi-Key; ComponentLink1URL: https://www.digikey.com/en/products/detail/yageo/RT0603BRD07178KL/1072287?s=N4IgTCBcDaIEoBUAMA2JBmAQnAIkg7AIz4AcA0gDIgC6AvkA
footprint 0603
pins: 1, 2

## Res_178k_0805_1/8W
designator R?, comment value 178k  (hidden comment: 178k 1/8W)
RES SMD 178k OHM 1% 1/8W 0805; Manufacturer: Yageo; Manufacturer Part Number: RC0805FR-07178KL; Supplier 1: Digi-Key; Supplier Part Number 1: 311-178KCRCT-ND; Reel Stock: N/A; Last modified by: J.Jaramillo; Last modified date: 20240310; ComponentLink1Description: Digi-Key; ComponentLink1URL: https://www.digikey.com/products/en?keywords=311-178KCRCT-ND
footprint 0805 (2012 metric/ 20190327 / V-A.Patino)
footprint 0805_M (2012 Metric / 20200129/ V-A.Patino)
pins: 1, 2

## Res_180k_0603_1/10W
designator R?, comment value 180k  (hidden comment: 180k 1/10W)
RES SMD 180K OHM 1% 1/10W 0603; Manufacturer Part Number: RC0603FR-07180KL; Manufacturer: Yageo; Reel Stock: N/A; Last modified by: J.Jaramillo; Last modified date: 20240310; ComponentLink1Description: Digi-Key; ComponentLink1URL: https://www.digikey.com/en/products/detail/yageo/RC0603FR-07180KL/726995?s=N4IgTCBcDaIEoGEAMA2JBmAYnAtEg7AIwAcSA0gDIgC6AvkA; Supplier 1: Digi-Key; Supplier Part Number 1: 311-180KHRCT-ND
footprint 0603
pins: 1, 2

## Res_180R_0603_1/10W
designator R?, comment value 180R  (hidden comment: 180R 1/10W)
RES 180 OHM 1% 1/8W 0603; Manufacturer Part Number: RNCP0603FTD180R; Manufacturer: Stackpole Electronics; Reel Stock: N/A; Last modified by: J.Jaramillo; Last modified date: 20240310; ComponentLink1Description: Digi-Key; ComponentLink1URL: https://www.digikey.com/en/products/detail/stackpole-electronics-inc/RNCP0603FTD180R/2240089?s=N4IgTCBcDaIEoDkDCAFADANjQZgGIBUARARgA404QBdAXyA; Supplier 1: Digi-Key; Supplier Part Number 1: RNCP0603FTD180RCT-ND
footprint 0603
pins: 1, 2

## Res_187K_0603_1/10W
designator R?, comment value 187K  (hidden comment: 187K 1/10W)
RES 187K OHM 1% 1/10W 0603; Manufacturer Part Number: RC0603FR-07187KL; Manufacturer: Yageo; Reel Stock: N/A; Last modified by: J.Jaramillo; Last modified date: 20240310; ComponentLink1Description: Digi-Key; ComponentLink1URL: https://www.digikey.com/en/products/detail/yageo/RC0603FR-07187KL/726999; Supplier 1: Digi-Key; Supplier Part Number 1: 311-187KHRCT-ND
footprint 0603
pins: 1, 2

## Res_191R_0603_1/10W
designator R?, comment value 191R  (hidden comment: 190R 1/10W)
RES 191 OHM 1% 1/10W 0603; Manufacturer: YAGEO; Manufacturer Part Number: RC0603FR-07191RL; Supplier 1: Digi-Key; Supplier Part Number 1: 311-191HRCT-ND; Reel Stock: N/A; Last modified by: J.Jaramillo; Last modified date: 20240310; ComponentLink1Description: Digi-Key; ComponentLink1URL: https://www.digikey.com/en/products/detail/yageo/RC0603FR-07191RL/727004
footprint 0603_0.4mm (1608 Metric/20230303/J-A.Sepulveda)
footprint 0603_0.6mm (1608 Metric/20230303/J-A.Sepulveda)
footprint 0603_0.8mm (1608 Metric/20230303/J-A.Sepulveda)
footprint 0603_1.0mm (1608 Metric/20230303/J-A.Sepulveda)
footprint 0603_1.2mm (1608 Metric/20230303/J-A.Sepulveda)
footprint 0603_1.4mm (1608 Metric/20230206/J-A.Sepulveda)
pins: 1, 2

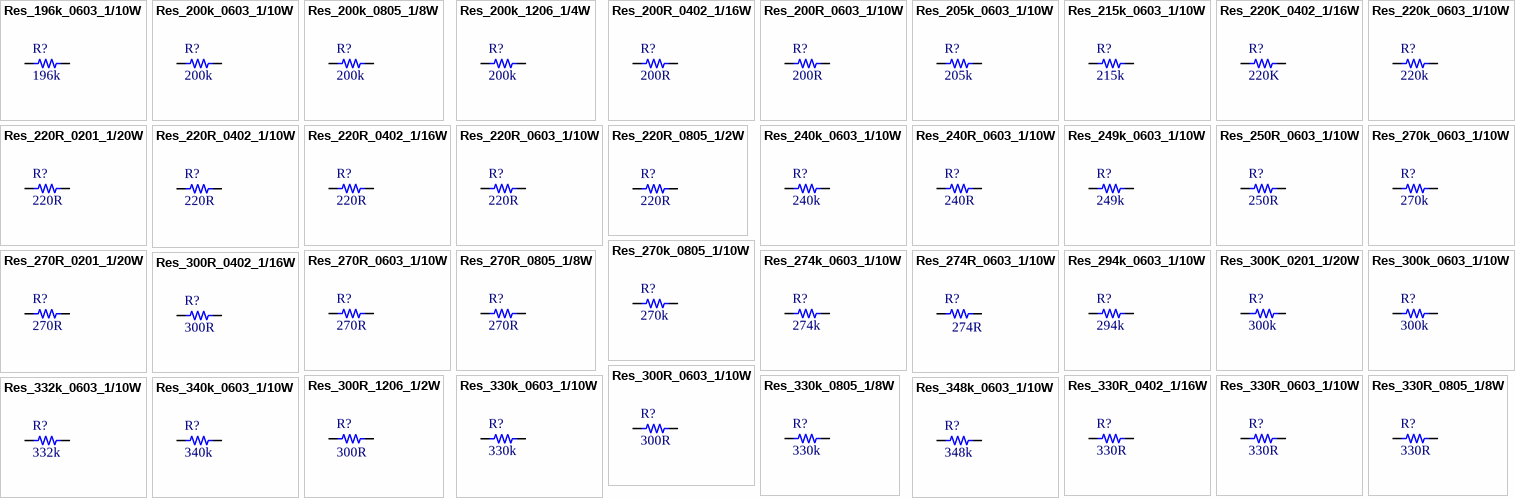
[diagram p8: symbols Res_196k_0603_1/10W to Res_348k_0603_1/10W]

## Res_196k_0603_1/10W
designator R?, comment value 196k  (hidden comment: 196k 1/10W)
RES SMD 196K OHM 1% 1/10W 0603; Manufacturer: Yageo; Manufacturer Part Number: RC0603FR-07196KL; Reel Stock: N/A; Last modified by: J.Jaramillo; Last modified date: 20240310; ComponentLink1Description: Digi-Key; ComponentLink1URL: https://www.digikey.com/en/products/detail/yageo/RC0603FR-07196KL/727007?s=N4IgTCBcDaIEoGEAMA2JBmAYnAtEg7AIwCcKA0gDIgC6AvkA; Supplier 1: Digi-Key; Supplier Part Number 1: 311-196KHRCT-ND
footprint 0603
pins: 1, 2

## Res_200k_0603_1/10W
designator R?, comment value 200k  (hidden comment: 200k 1/10W)
RES 200K OHM 1% 1/10W 0603; Manufacturer: Stackpole Electronics Inc; Manufacturer Part Number: RMCF0603FT200K; Supplier 1: Digi-Key; Supplier Part Number 1: RMCF0603FT200KCT-ND; Reel Stock: N/A; Last modified by: J.Jaramillo; Last modified date: 20240310; ComponentLink1Description: Digi-Key; ComponentLink1URL: https://www.digikey.com/en/products/detail/stackpole-electronics-inc/RMCF0603FT200K/1760715
footprint 0603 (1608 Metric / 20190222 / N-A.Potosi)
pins: 1, 2

## Res_200k_0805_1/8W
designator R?, comment value 200k  (hidden comment: 200k 1/8W)
RES SMD 200K OHM 5% 1/2W 0805; Manufacturer: Panasonic Electronic Components; Manufacturer Part Number: ERJ-P06J204V; Supplier 1: Digi-Key; Supplier Part Number 1: P200KADCT-ND; Reel Stock: N/A; Last modified by: J.Jaramillo; Last modified date: 20240310; ComponentLink1Description: Digi-Key; ComponentLink1URL: https://www.digikey.com/product-detail/en/panasonic-electronic-components/ERJ-P06J204V/P200KADCT-ND/525475
footprint 0805 (2012 metric/ 20190327 / V-A.Patino)
footprint 0805_M (2012 Metric / 20200129/ V-A.Patino)
pins: 1, 2

## Res_200k_1206_1/4W
designator R?, comment value 200k  (hidden comment: 200k 1/4W)
RES 200K OHM 1% 1/4W 1206; Manufacturer: Stackpole Electronics Inc; Manufacturer Part Number: RMCF1206FT200K; Supplier 1: Digi-Key; Supplier Part Number 1: RMCF1206FT200KTR-ND; Reel Stock: N/A; Last modified by: J.Jaramillo; Last modified date: 20240310; ComponentLink1Description: Digi-Key; ComponentLink1URL: https://www.digikey.com/product-detail/en/stackpole-electronics-inc/RMCF1206FT200K/RMCF1206FT200KTR-ND/1759778
footprint 1206 (3216 metric/ 20190327/ V-A.Patino)
pins: 1, 2

## Res_200R_0402_1/16W
designator R?, comment value 200R  (hidden comment: 200R 1/16W)
RES SMD 200 OHM 5% 1/16W 0402; Manufacturer: Yageo; Manufacturer Part Number: RC0402JR-07200RL; Supplier 1: Digikey; Supplier Part Number 1: 311-200JRCT-ND; Reel Stock: N/A; Last modified by: J.Jaramillo; Last modified date: 20240310; ComponentLink1Description: Digikey; ComponentLink1URL: https://www.digikey.com/en/products/detail/yageo/RC0402JR-07200RL/726439
footprint 0402 (1005 Metric / 20190222 / N-A.Potosi)
footprint 0402_RF (1005 Metric / 20190222 / N-A.Potosi)
footprint 0402_RF2 (1005 Metric / 20190222 / N-A.Potosi)
pins: 1, 2

## Res_200R_0603_1/10W
designator R?, comment value 200R  (hidden comment: 200R 1/10W)
RES SMD 200 OHM 1% 1/10W 0603; Manufacturer: Yageo; Manufacturer Part Number: RC0603FR-07200RL; Supplier 1: Digi-Key; Supplier Part Number 1: 311-200HRCT-ND; Reel Stock: N/A; Last modified by: J.Jaramillo; Last modified date: 20240310; ComponentLink1Description: Digi-Key; ComponentLink1URL: https://www.digikey.com/product-detail/en/yageo/RC0603FR-07200RL/311-200HRCT-ND/729990
footprint 0603 (1608 Metric / 20190222 / N-A.Potosi)
pins: 1, 2

## Res_205k_0603_1/10W
designator R?, comment value 205k  (hidden comment: 205k 1/10W)
RES SMD 205k OHM 1% 1/10W 0603; Manufacturer: Yageo; Manufacturer Part Number: RC0603FR-07205KL; Supplier 1: Digi-Key; Supplier Part Number 1: 311-205KHRCT-ND; Reel Stock: N/A; Last modified by: J.Jaramillo; Last modified date: 20240310; ComponentLink1Description: Digi-Key; ComponentLink1URL: https://www.digikey.com/product-detail/en/yageo/RC0603FR-07205KL/311-205KHRCT-ND/729993
footprint 0603
pins: 1, 2

## Res_215k_0603_1/10W
designator R?, comment value 215k  (hidden comment: 215k 1/10W)
RES SMD 215K OHM 1% 1/10W 0603; Manufacturer: Yageo; Manufacturer Part Number: RC0603FR-07215KL; Supplier 1: Digi-Key; Supplier Part Number 1: 311-215KHRCT-ND; Reel Stock: N/A; Last modified by: J.Jaramillo; Last modified date: 20240310; ComponentLink1Description: Digi-Key; ComponentLink1URL: https://www.digikey.com/product-detail/en/yageo/RC0603FR-07215KL/311-215KHRCT-ND/730001
footprint 0603 (1608 Metric / 20190222 / N-A.Potosi)
pins: 1, 2

## Res_220K_0402_1/16W
designator R?, comment value 220K  (hidden comment: 220K 1/16W)
RES SMD 220K OHM 1% 1/16W 0402; Manufacturer: Vishay Dale; Manufacturer Part Number: CRCW0402220KFKED; Supplier 1: Digi-Key; Supplier Part Number 1: 541-220KLCT-ND; Reel Stock: N/A; Last modified by: J.Jaramillo; Last modified date: 20240310; ComponentLink1Description: Digi-Key; ComponentLink1URL: https://www.digikey.com/en/products/detail/vishay-dale/CRCW0402220KFKED/1178271
footprint 0402 (1005 Metric / 20190222 / N-A.Potosi)
footprint 0402_RF (1005 Metric / 20190222 / N-A.Potosi)
footprint 0402_RF2 (1005 Metric / 20190222 / N-A.Potosi)
pins: 1, 2

## Res_220k_0603_1/10W
designator R?, comment value 220k  (hidden comment: 220k 1/10W)
RES SMD 220K OHM 1% 1/10W 0603; Manufacturer Part Number: RC0603FR-07220KL; Manufacturer: Yageo; Reel Stock: N/A; Last modified by: J.Jaramillo; Last modified date: 20240310; ComponentLink1Description: Digi-Key; ComponentLink1URL: https://www.digikey.com/en/products/detail/yageo/RC0603FR-07220KL/727062?s=N4IgTCBcDaIEoGEAMA2JBmAYnAtEg7GGEgNIAyIAugL5A; Supplier Part Number 1: 311-220KHRCT-ND; Supplier 1: Digi-Key
footprint 0603
pins: 1, 2

## Res_220R_0201_1/20W
designator R?, comment value 220R  (hidden comment: 220R 1/20W)
RES 220 OHM 1% 1/20W 0201; Manufacturer: KOA Speer Electronics, Inc.; Manufacturer Part Number: RK73H1HTTC2200F; Supplier 1: Digi-Key; Supplier Part Number 1: 2019-RK73H1HTTC2200FCT-ND; Reel Stock: N/A; Last modified by: J.Jaramillo; Last modified date: 20240310; ComponentLink1Description: Digi-Key; ComponentLink1URL: https://www.digikey.com/en/products/detail/koa-speer-electronics-inc/RK73H1HTTC2200F/9843801?s=N4IgTCBcDa4AwEYCcBaASgaQOwGYASCeAKkQMJhhxwBipRKAcgCIgC6AvkA
footprint 0201 (20211214 / A-F.Romo)
pins: 1, 2

## Res_220R_0402_1/10W
designator R?, comment value 220R  (hidden comment: 220R 1/10W)
RES SMD 220 OHM 5% 1/10W 0402; Manufacturer: Panasonic Electronic Components; Manufacturer Part Number: ERJ-2GEJ221X; Supplier 1: Digi_Key; Supplier Part Number 1: P220JCT-ND; Reel Stock: N/A; Last modified by: J.Jaramillo; Last modified date: 20240310; ComponentLink1Description: Digi_Key; ComponentLink1URL: https://www.digikey.com/product-detail/en/panasonic-electronic-components/ERJ-2GEJ221X/P220JCT-ND/146933
footprint 0402 (1005 Metric / 20190222 / N-A.Potosi)
footprint 0402_RF (1005 Metric / 20190222 / N-A.Potosi)
pins: 1, 2

## Res_220R_0402_1/16W
designator R?, comment value 220R  (hidden comment: 220R 1/16W)
CRGCQ 0402 220R 1%; Manufacturer: TE Connectivity Passive Product; Manufacturer Part Number: CRGCQ0402F220R; Supplier 1: Digi-Key; Supplier Part Number 1: A129619CT-ND; Reel Stock: N/A; Last modified by: J.Jaramillo; Last modified date: 20240310; ComponentLink1Description: Digi-Key; ComponentLink1URL: https://www.digikey.com/product-detail/en/te-connectivity-passive-product/CRGCQ0402F220R/A129619CT-ND/8577451
footprint 0402 (1005 Metric / 20190222 / N-A.Potosi)
footprint 0402_RF (1005 Metric / 20190222 / N-A.Potosi)
footprint 0402_RF2 (1005 Metric / 20190222 / N-A.Potosi)
pins: 1, 2

## Res_220R_0603_1/10W
designator R?, comment value 220R  (hidden comment: 220R 1/10W)
RES SMD 220 OHM 1% 1/10W 0603; Manufacturer: Yageo; Manufacturer Part Number: RC0603FR-07220RL; Supplier 1: Digi-Key; Supplier Part Number 1: 311-220HRCT-ND; Reel Stock: N/A; Last modified by: J.Jaramillo; Last modified date: 20240310; ComponentLink1Description: Digi-Key; ComponentLink1URL: https://www.digikey.com/product-detail/en/yageo/RC0603FR-07220RL/311-220HRCT-ND/730008
footprint 0603
pins: 1, 2

## Res_220R_0805_1/2W
designator R?, comment value 220R  (hidden comment: 220R 1/2W)
RES SMD 220 OHM 1% 1/2W 0805; Manufacturer: Vishay Dale; Manufacturer Part Number: CRCW0805220RFKEAHP; Supplier 1: Digi-Key; Supplier Part Number 1: 541-220TCT-ND; Reel Stock: N/A; Last modified by: J.Jaramillo; Last modified date: 20240310; ComponentLink1Description: Digi-Key; ComponentLink1URL: https://www.digikey.com/en/products/detail/vishay-dale/CRCW0805220RFKEAHP/2226891
footprint 0805 (2012 metric/ 20190327 / V-A.Patino)
pins: 1, 2

## Res_240k_0603_1/10W
designator R?, comment value 240k  (hidden comment: 240k 1/10W)
RES SMD 240K OHM 1% 1/10W 0603; Manufacturer: Yageo; Manufacturer Part Number: RC0603FR-07240KL; Reel Stock: N/A; Last modified by: J.Jaramillo; Last modified date: 20240310; ComponentLink1Description: Digi-key; ComponentLink1URL: https://www.digikey.com/product-detail/en/yageo/RC0603FR-07240KL/311-240KHRCT-ND/730029; Supplier 1: Digi-Key; Supplier Part Number 1: 311-240KHRCT-ND
footprint 0603 (1608 Metric / 20190222 / N-A.Potosi)
pins: 1, 2

## Res_240R_0603_1/10W
designator R?, comment value 240R  (hidden comment: 240R 1/10W)
RES SMD 240 OHM 1% 1/10W 0603; Manufacturer: Yageo; Manufacturer Part Number: RC0603FR-07240RL; Reel Stock: N/A; Last modified by: J.Jaramillo; Last modified date: 20240310; ComponentLink1Description: Digi-Key; ComponentLink1URL: https://www.digikey.com/en/products/detail/yageo/RC0603FR-07240RL/727081?s=N4IgTCBcDaIEoGEAMA2JBmAYnAtEg7GACxJwAyIAugL5A; Supplier 1: Digi-Key; Supplier Part Number 1: 311-240HRCT-ND
footprint 0603
pins: 1, 2

## Res_249k_0603_1/10W
designator R?, comment value 249k  (hidden comment: 249k 1/10W)
RES 249K OHM 1% 1/10W 0603; Manufacturer: Stackpole Electronics Inc; Manufacturer Part Number: RMCF0603FT249K; Supplier 1: Digi-Key; Supplier Part Number 1: RMCF0603FT249KCT-ND; Reel Stock: N/A; Last modified by: J.Jaramillo; Last modified date: 20240310; ComponentLink1Description: Digi-Key; ComponentLink1URL: https://www.digikey.com/product-detail/en/stackpole-electronics-inc/RMCF0603FT249K/RMCF0603FT249KCT-ND/4250693
footprint 0603 (1608 Metric / 20190222 / N-A.Potosi)
pins: 1, 2

## Res_250R_0603_1/10W
designator R?, comment value 250R  (hidden comment: 250R 1/10W)
RES SMD 250 OHM 0.1% 1/10W 0603; Manufacturer: Yageo; Manufacturer Part Number: RT0603BRE07250RL; Supplier 1: Digi-Key; Supplier Part Number 1: 13-RT0603BRE07250RLCT-ND; Reel Stock: N/A; Last modified by: J.Jaramillo; Last modified date: 20240310; ComponentLink1Description: Digi-Key; ComponentLink1URL: https://www.digikey.com/products/en?keywords=RT0603BRE07250RL-ND
footprint 0603 (1608 Metric / 20190222 / N-A.Potosi)
pins: 1, 2

## Res_270k_0603_1/10W
designator R?, comment value 270k  (hidden comment: 270k 1/10W)
RES SMD 270K OHM 1% 1/10W 0603; Manufacturer: Yageo; Manufacturer Part Number: RC0603FR-07270KL; Reel Stock: N/A; Last modified by: J.Jaramillo; Last modified date: 20240310; ComponentLink1Description: Digi-Key; ComponentLink1URL: https://www.digikey.com/en/products/detail/yageo/RC0603FR-07270KL/727104?s=N4IgTCBcDaIEoGEAMA2JBmAYnAtEg7GPkgNIAyIAugL5A; Supplier 1: Digi-Key; Supplier Part Number 1: 311-270KHRCT-ND
footprint 0603
pins: 1, 2

## Res_270k_0805_1/10W
designator R?, comment value 270k  (hidden comment: 270k 1/8W)
RES SMD 270K OHM 1% 1/8W 0805; Manufacturer: Stackpole Electronics Inc; Manufacturer Part Number: RMCF0805FT270K; Supplier 1: Digi-Key; Supplier Part Number 1: RMCF0805FT270KCT-ND; Reel Stock: N/A; Last modified by: J.Jaramillo; Last modified date: 20240310; ComponentLink1Description: Digi-Key; ComponentLink1URL: https://www.digikey.com/product-detail/en/stackpole-electronics-inc/RMCF0805FT270K/RMCF0805FT270KCT-ND/7906782
footprint 0805 (2012 metric/ 20190327 / V-A.Patino)
footprint 0805_M (2012 Metric / 20200129/ V-A.Patino)
pins: 1, 2

## Res_270R_0201_1/20W
designator R?, comment value 270R  (hidden comment: 270R 1/20W)
RES 270 OHM 1% 1/20W 0201; Manufacturer: Stackpole Electronics Inc; Manufacturer Part Number: RMCF0201FT270R; Supplier 1: Digi-Key; Supplier Part Number 1: RMCF0201FT270RCT-ND; Reel Stock: N/A; Last modified by: J.Jaramillo; Last modified date: 20240310; ComponentLink1Description: Digi-Key; ComponentLink1URL: https://www.digikey.com/en/products/detail/stackpole-electronics-inc/RMCF0201FT270R/3906016?s=N4IgTCBcDaIEoFkDCAxADGNBGFAVMA7GnCALoC%2BQA
footprint 0201 (20211214 / A-F.Romo)
pins: 1, 2

## Res_270R_0603_1/10W
designator R?, comment value 270R  (hidden comment: 270R 1/10W)
RES SMD 270 OHM 1% 1/10W 0603; Manufacturer: Panasonic Electronic Components; Manufacturer Part Number: ERJ-3EKF2700V; Supplier 1: Digi-Key; Supplier Part Number 1: P270HCT-ND; Reel Stock: N/A; Last modified by: J.Jaramillo; Last modified date: 20240310; ComponentLink1Description: Digi-Key; ComponentLink1URL: https://www.digikey.com/product-detail/en/panasonic-electronic-components/ERJ-3EKF2700V/P270HCT-ND/1746751
footprint 0603 (1608 Metric / 20190222 / N-A.Potosi)
pins: 1, 2

## Res_270R_0805_1/8W
designator R?, comment value 270R  (hidden comment: 270R 1/8W)
RES SMD 270 OHM 1% 1/8W 0805; Manufacturer: Yageo; Manufacturer Part Number: RC0805FR-07270RL; Supplier 1: Digikey; Supplier Part Number 1: 311-270CRCT-ND; Reel Stock: N/A; Last modified by: J.Jaramillo; Last modified date: 20240310; ComponentLink1Description: Digikey; ComponentLink1URL: https://www.digikey.com/en/products/detail/yageo/RC0805FR-07270RL/727783?s=N4IgTCBcDaIMwEYEFowHYAMBhASlgKsgHIAiIAugL5A
footprint 0805 (2012 metric/ 20190327 / V-A.Patino)
footprint 0805_M (2012 Metric / 20200129/ V-A.Patino)
pins: 1, 2

## Res_274k_0603_1/10W
designator R?, comment value 274k  (hidden comment: 274k 1/10W)
RES 274K OHM 1% 1/10W 0603; Manufacturer: KOA Speer Electronics, Inc.; Manufacturer Part Number: RK73H1JTTD2743F; Supplier 1: Digi-Key; Supplier Part Number 1: 2019-RK73H1JTTD2743FCT-ND; Reel Stock: N/A; Last modified by: J.Jaramillo; Last modified date: 20240310; ComponentLink1Description: Digi-Key; ComponentLink1URL: https://www.digikey.com/product-detail/en/koa-speer-electronics-inc/RK73H1JTTD2743F/2019-RK73H1JTTD2743FCT-ND/9847270
footprint 0603 (1608 Metric / 20190222 / N-A.Potosi)
pins: 1, 2

## Res_274R_0603_1/10W
designator R?, comment value 274R  (hidden comment: 274R 1/10W)
RES 274 OHM 1% 1/10W 0603; Manufacturer: Stackpole Electronics Inc; Manufacturer Part Number: RMCF0603FT274R; Supplier 1: Digi-Key; Supplier Part Number 1: RMCF0603FT274RCT-ND; Reel Stock: N/A; Last modified by: J.Jaramillo; Last modified date: 20240310; ComponentLink1Description: Digi-Key; ComponentLink1URL: https://www.digikey.com/en/products/detail/stackpole-electronics-inc/RMCF0603FT274R/1760838
footprint 0603 (1608 Metric / 20190222 / N-A.Potosi)
pins: 1, 2

## Res_294k_0603_1/10W
designator R?, comment value 294k  (hidden comment: 294k 1/10W)
RES SMD 294K OHM 1% 1/10W 0603; Manufacturer Part Number: RC0603FR-07294KL; Manufacturer: Yageo; Reel Stock: N/A; Last modified by: J.Jaramillo; Last modified date: 20240310; ComponentLink1Description: Digi-Key; ComponentLink1URL: https://www.digikey.com/en/products/detail/yageo/RC0603FR-07294KL/727118?s=N4IgTCBcDaIEoGEAMA2JBmAYnAtEg7GAJwAsA0gDIgC6AvkA; Supplier 1: Digi-Key; Supplier Part Number 1: 311-294KHRCT-ND
footprint 0603
pins: 1, 2

## Res_300K_0201_1/20W
designator R?, comment value 300k  (hidden comment: 300k 1/20W)
RES 300K OHM 1% 1/20W 0201; Manufacturer: YAGEO; Manufacturer Part Number: RC0201FR-07300KL; Supplier 1: Digi-Key; Supplier Part Number 1: YAG2585CT-ND; Reel Stock: N/A; Last modified by: J.Jaramillo; Last modified date: 20240310; ComponentLink1Description: Digi-Key; ComponentLink1URL: https://www.digikey.com/en/products/detail/yageo/RC0201FR-07300KL/5280445?s=N4IgTCBcDaIEoGEAMYkEYBicC0SDsAzEkgNIAyIAugL5A
footprint 0201 (20211214 / A-F.Romo)
pins: 1, 2

## Res_300k_0603_1/10W
designator R?, comment value 300k  (hidden comment: 300k 1/10W)
RES SMD 300K OHM 1% 1/10W 0603; Manufacturer: Bourns Inc.; Manufacturer Part Number: CR0603-FX-3003ELF; Supplier 1: Digi-Key; Supplier Part Number 1: CR0603-FX-3003ELFCT-ND; Reel Stock: N/A; Last modified by: J.Jaramillo; Last modified date: 20240310; ComponentLink1Description: Digi-Key; ComponentLink1URL: https://www.digikey.com/product-detail/en/bourns-inc/CR0603-FX-3003ELF/CR0603-FX-3003ELFCT-ND/4247766
footprint 0603 (1608 Metric / 20190222 / N-A.Potosi)
pins: 1, 2

## Res_300R_0402_1/16W
designator R?, comment value 300R  (hidden comment: 300R 1/16W)
RES SMD 300 OHM 1% 1/16W 0402; Manufacturer: Yageo; Manufacturer Part Number: RC0402FR-07300RL; Supplier 1: Digi-Key; Supplier Part Number 1: 311-300LRCT-ND; Reel Stock: N/A; Last modified by: J.Jaramillo; Last modified date: 20240310; ComponentLink1Description: Digi-Key; ComponentLink1URL: https://www.digikey.com/product-detail/en/yageo/RC0402FR-07300RL/311-300LRCT-ND/729536
footprint 0402 (1005 Metric / 20190222 / N-A.Potosi)
footprint 0402_RF (1005 Metric / 20190222 / N-A.Potosi)
footprint 0402_RF2 (1005 Metric / 20190222 / N-A.Potosi)
pins: 1, 2

## Res_300R_0603_1/10W
designator R?, comment value 300R  (hidden comment: 300R 1/10W)
RES SMD 300 OHM 1% 1/10W 0603; Manufacturer: Panasonic Electronic Components; Manufacturer Part Number: ERJ-3EKF3000V; Supplier 1: Digi-Key; Supplier Part Number 1: P300HCT-ND; Reel Stock: N/A; Last modified by: J.Jaramillo; Last modified date: 20240310; ComponentLink1Description: Digi-Key; ComponentLink1URL: https://www.digikey.com/product-detail/en/panasonic-electronic-components/ERJ-3EKF3000V/P300HCT-ND/1746756
footprint 0603
pins: 1, 2

## Res_300R_1206_1/2W
designator R?, comment value 300R  (hidden comment: 300R 1/2W)
RCS1206 200 300R 5% ET1 E3; Manufacturer: Vishay Dale; Manufacturer Part Number: RCS1206300RJNEA; Supplier 1: Digi-Key; Supplier Part Number 1: 541-10623-1-ND; Reel Stock: N/A; Last modified by: J.Jaramillo; Last modified date: 20240310; ComponentLink1Description: Digi-Key; ComponentLink1URL: https://www.digikey.com/en/products/detail/vishay-dale/RCS1206300RJNEA/10059689?s=N4IgTCBcDaIEoGEDKBGMAGAbAZneuAUgHICiAgiALoC%2BQA
footprint 1206 (3216 metric/ 20190327/ V-A.Patino)
pins: 1, 2

## Res_330k_0603_1/10W
designator R?, comment value 330k  (hidden comment: 348K 1/10W)
RES SMD 330k OHM 1% 1/10W 0603; Manufacturer: Yageo; Manufacturer Part Number: RC0603FR-07330KL; Supplier 1: Digi-Key; Supplier Part Number 1: 311-330KHRCT-ND; Reel Stock: N/A; Last modified by: J.Jaramillo; Last modified date: 20240310; ComponentLink1Description: Digi-Key; ComponentLink1URL: https://www.digikey.com/en/products/detail/yageo/RC0603FR-07330KL/727163?s=N4IgTCBcDaIEoGEAMA2JBmAYnAtEg7OukgNIAyIAugL5A
footprint 0603
pins: 1, 2